# Altium schematic symbol library Hot-Swap_Solutions_Schlib.SchLib: 3 symbols
Pins are listed as number, name and electrical type; pins without a type are passive.

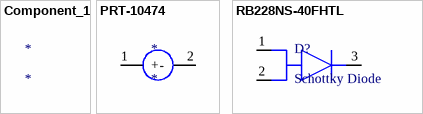
[diagram p0: symbols Component_1 to RB228NS-40FHTL]

## Component_1
designator *

## PRT-10474
designator *
XT60 CONNECTORS MALE/FEMALE PAIR; Manufacturer: SparkFun; Manufacturer Part Number: PRT-10474; Supplier 1: Digi-Key; Supplier Part Number 1: 1568-1816-ND; RoHS: No; Stock 1: 2291; Pricing 1: 1=1.50000 (USD); ComponentLink1URL: https://cdn.sparkfun.com/datasheets/Prototyping/xt60.pdf?src-supplier=Digi-Key; ComponentLink1Description: https://cdn.sparkfun.com/datasheets/Prototyping/xt60.pdf?src-supplier=Digi-Key
footprint XT60 CONNECTOR REPLACEMENT
pins: 1 +, 2 -

## RB228NS-40FHTL
designator D?, comment Schottky Diode
Manufacturer: Rohm; Manufacturer Part Number: RB228NS-40FHTL; Element Configuration: Common Cathode; Max Reverse Voltage (DC): 40V; Average Rectified Current: 30A; Supplier 1: Digi-Key; Supplier Part Number 1: RB228NS-40FHTLCT-ND; RoHS: No; Stock 1: 969; Pricing 1: 1=1.73000, 10=1.55700, 25=1.46920, 100=1.14580, 250=1.11644, 500=0.96954 (USD); Mount: Surface Mount; Case/Package: TO-263-3; Packaging: Tape and Reel; ComponentLink1URL: https://www.rohm.com/datasheet/RB228NS-40FH/rb228ns-40fhtl-e?src-supplier=Digi-Key; ComponentLink1Description: https://www.rohm.com/datasheet/RB228NS-40FH/rb228ns-40fhtl-e?src-supplier=Digi-Key
footprint Schottky Barrier Diode
pins: 1, 2, 3